# EAGLE library part NJL5501R (library mille-feuille)
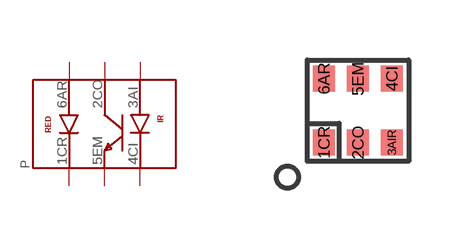
[diagram p19: symbol with the pads of NJL5501R; footprint NJL5501R]

Designator prefix P

## NJL5501R  [NJL5501R]
1CR  1CR
2CO  2CO
3AIR  3AI
4CI  4CI
5EM  5EM
6AR  6AR

## Footprint NJL5501R (pad centres in mm)
smd 0.55 x 0.65: 1CR -0.85,-0.8; 2CO 0,-0.8; 3AIR 0.85,-0.8; 4CI 0.85,0.8; 5EM 0,0.8; 6AR -0.85,0.8